# EAGLE library part SN74AUP1G74DCUR (library ICs)
D type Flip Flop, low power single pos edge triggered input, complementery output. 200MHz.
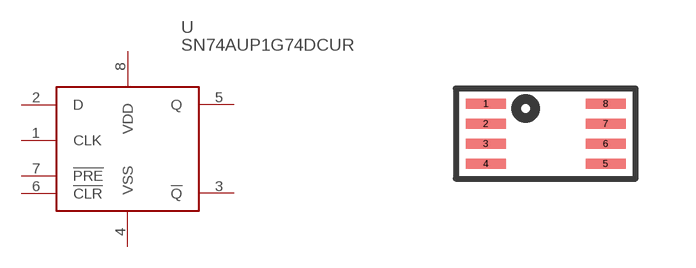
[diagram p76: symbol with the pads of TSSOP8; footprint TSSOP8]

Designator prefix U

## SN74AUP1G74DCUR (FARNELL: 2334897; PRICE_PER: 0.365; VALUE: D FLIP FLOP)  [TSSOP8]
1  CLK
2  D
3  !Q
4  VSS
5  Q
6  !CLR
7  !PRE
8  VDD

## Footprint TSSOP8 (pad centres in mm)
smd 1 x 0.25: 1 -1.5,0.75; 2 -1.5,0.25; 3 -1.5,-0.25; 4 -1.5,-0.75; 5 1.5,-0.75; 6 1.5,-0.25; 7 1.5,0.25; 8 1.5,0.75